# Altium footprint library MDJ06F.PcbLib: 1 footprints
Each footprint in its own frame and in the unit in brackets; x right, y up, seen from the top. Pads: shape width x height; smd on the part's side, far side on the other; paste and mask are expansions set on the pad; w line width, h text height; cw(c..) or ccw(c..) is an arc to the next point about the centre after c.
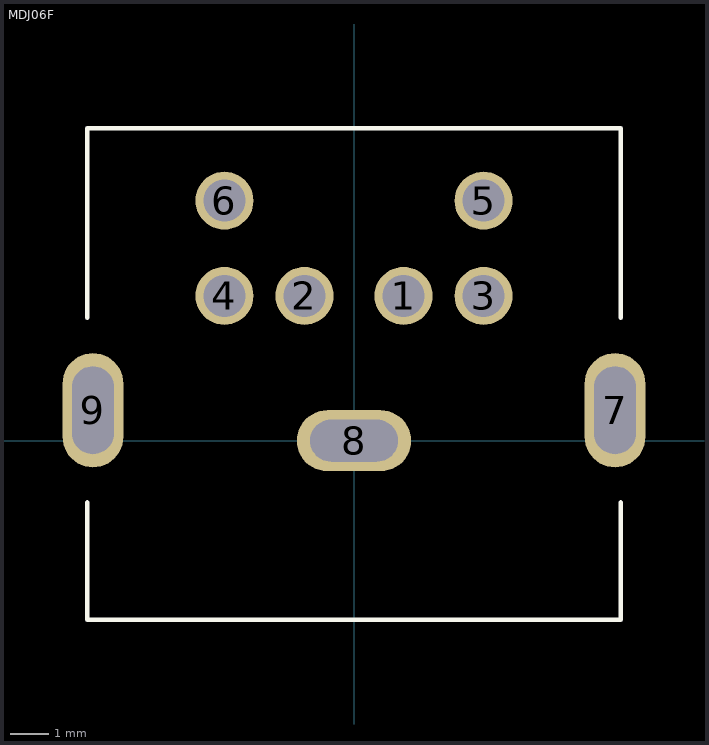
[diagram p0: the footprint, top view; thin cyan lines are the x and y axes]

## MDJ06F [mm]
pads (9):
  round 1.524 hole 1.1: 1(1.3,3.8) 2(-1.3,3.8) 3(3.4,3.8) 4(-3.4,3.8) 5(3.4,6.3) 6(-3.4,6.3)
  oval 1.6x3 hole 1.1 slot 2.3 at 90 deg: 7(6.85,0.8) 9(-6.85,0.8)
  oval 3x1.6 hole 1.1 slot 2.3 at 0 deg: 8(0,0)
Top Overlay:
  lines w0.127: -7,-1.627 -7,-4.7 7,-4.7 7,-1.627 ; -7,3.227 -7,8.2 7,8.2 7,3.227
3D body: height 13.3, standoff -3, extent -7.17,-4.775 7.17,8.325